# Altium schematic symbol library K4S561632D.SchLib: 1 symbol
Pins are listed as number, name and electrical type; pins without a type are passive.

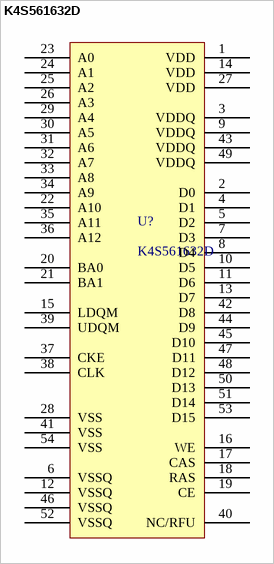
[diagram p0: symbol K4S561632D]

## K4S561632D
designator U?
footprint TSSOP54 (TSOP, 54-Leads, Body 22.57x10.00mm, Pitch 0.80mm, IPC Medium Density)
pins: 1 VDD, 2 D0, 3 VDDQ, 4 D1, 5 D2, 6 VSSQ, 7 D3, 8 D4, 9 VDDQ, 10 D5, 11 D6, 12 VSSQ, 13 D7, 14 VDD, 15 LDQM, 16 WE, 17 CAS, 18 RAS, 19 CE, 20 BA0, 21 BA1, 22 A10, 23 A0, 24 A1, 25 A2, 26 A3, 27 VDD, 28 VSS, 29 A4, 30 A5, 31 A6, 32 A7, 33 A8, 34 A9, 35 A11, 36 A12, 37 CKE, 38 CLK, 39 UDQM, 40 NC/RFU, 41 VSS, 42 D8, 43 VDDQ, 44 D9, 45 D10, 46 VSSQ, 47 D11, 48 D12, 49 VDDQ, 50 D13, 51 D14, 52 VSSQ, 53  D15, 54 VSS